# Altium footprint library Nutz.PcbLib: 67 footprints (part 3 of 5)
Each footprint in its own frame and in the unit in brackets; x right, y up, seen from the top. Pads: shape width x height; smd on the part's side, far side on the other; paste and mask are expansions set on the pad; w line width, h text height; cw(c..) or ccw(c..) is an arc to the next point about the centre after c.
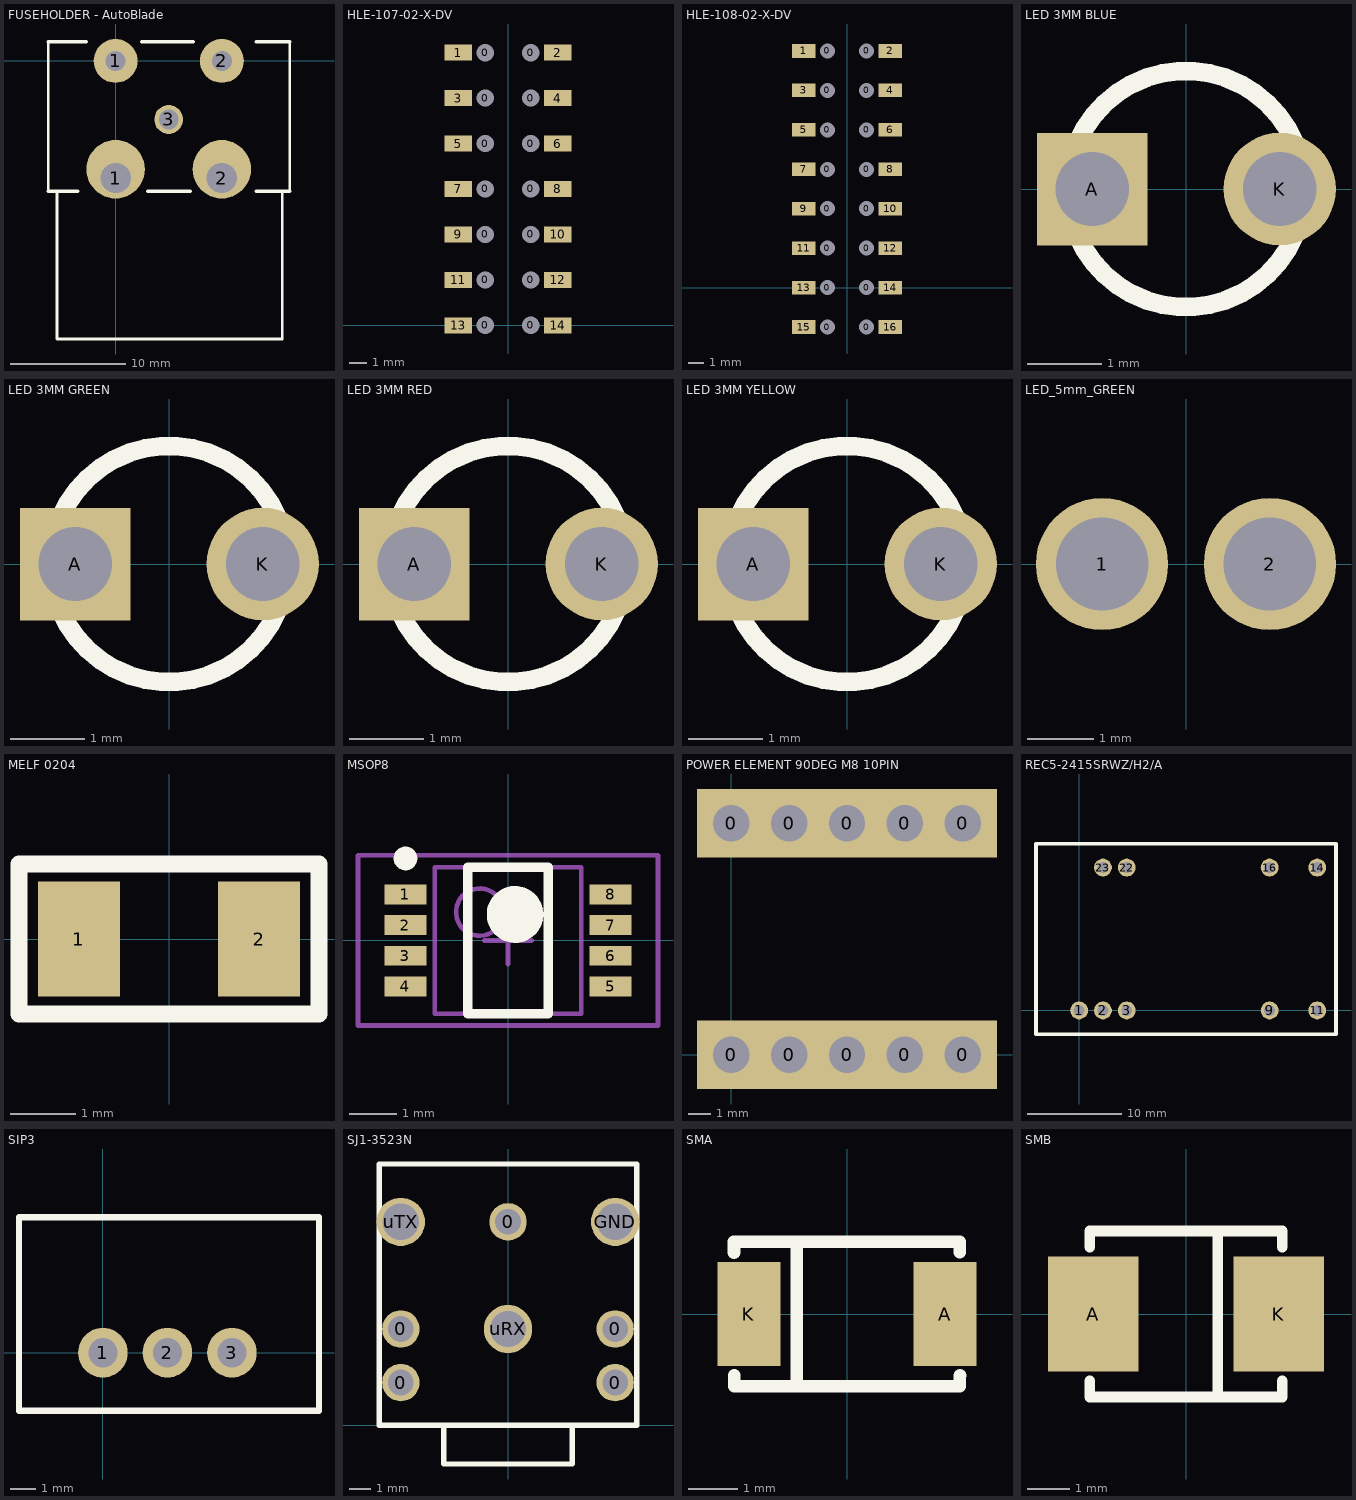
[diagram p2: the footprints below, top view; thin cyan lines are the x and y axes]

## FUSEHOLDER - AutoBlade [mil]
pads (5):
  round 200 hole 104 copper offset 0,30: 1(0,-400) 2(363,-400)
  round 150 hole 68: 1(0,0) 2(363,0)
  round 98.43 hole 67 unplated: 3(181.5,-200)
Top Overlay:
  lines w9: -200,-445 -200,-950 570,-950 570,-445
  lines w10: -230,-445 -230,60 ; 595,-445 595,60
  lines w12: -230,-445 -130,-445 ; -230,65 -100,65 ; 90,65 265,65 ; 110,-445 255,-445 ; 480,-445 595,-445 ; 480,65 595,65

## HLE-107-02-X-DV [mil]
pads (28):
  round 30 hole 38 unplated: 0(-50,0) 0(-50,100) 0(-50,200) 0(-50,300) 0(-50,400) 0(-50,500) 0(-50,600) 0(50,0) 0(50,100) 0(50,200) 0(50,300) 0(50,400) 0(50,500) 0(50,600)
  rect 60x35 smd: 1(-109.5,600) 2(109.5,600) 3(-109.5,500) 4(109.5,500) 5(-109.5,400) 6(109.5,400) 7(-109.5,300) 8(109.5,300) 9(-109.5,200) 10(109.5,200) 11(-109.5,100) 12(109.5,100) 13(-109.5,0) 14(109.5,0)
3D body: height 142.09, standoff -1.91, extent -129.41,-50 130.59,650

## HLE-108-02-X-DV [mil]
pads (32):
  round 30 hole 38 unplated: 0(-50,-100) 0(-50,0) 0(-50,100) 0(-50,200) 0(-50,300) 0(-50,400) 0(-50,500) 0(-50,600) 0(50,-100) 0(50,0) 0(50,100) 0(50,200) 0(50,300) 0(50,400) 0(50,500) 0(50,600)
  rect 60x35 smd: 1(-109.5,600) 2(109.5,600) 3(-109.5,500) 4(109.5,500) 5(-109.5,400) 6(109.5,400) 7(-109.5,300) 8(109.5,300) 9(-109.5,200) 10(109.5,200) 11(-109.5,100) 12(109.5,100) 13(-109.5,0) 14(109.5,0) 15(-109.5,-100) 16(109.5,-100)
3D body: height 142.09, standoff -1.91, extent -129.41,-50 130.59,650

## LED 3MM BLUE [mm] "LED 3MM GREEN"
height 5.1
pads (2):
  rect 1.5x1.524 hole 1: A(-1.27,0)
  round 1.524 hole 1: K(1.27,0)
Top Overlay:
  circle w0.254: c0,0 r1.6
3D body: height 5.51, standoff -2.49, extent -1.65,-1.639 1.65,1.65

## LED 3MM GREEN [mm] "LED 3MM GREEN"
height 5.1
pads (2):
  rect 1.5x1.524 hole 1: A(-1.27,0)
  round 1.524 hole 1: K(1.27,0)
Top Overlay:
  circle w0.254: c0,0 r1.6
3D body: height 5.51, standoff -2.49, extent -1.65,-1.639 1.65,1.65

## LED 3MM RED [mm] "LED 3MM RED"
height 5.1
pads (2):
  rect 1.5x1.524 hole 1: A(-1.27,0)
  round 1.524 hole 1: K(1.27,0)
Top Overlay:
  circle w0.254: c0,0 r1.6
3D body: height 5.51, standoff -2.49, extent -1.65,-1.65 1.65,1.639

## LED 3MM YELLOW [mm] "LED 3MM YELLOW"
height 5.1
pads (2):
  rect 1.5x1.524 hole 1: A(-1.27,0)
  round 1.524 hole 1: K(1.27,0)
Top Overlay:
  circle w0.254: c0,0 r1.6
3D body: height 5.51, standoff -2.49, extent -1.65,-1.65 1.65,1.639

## LED_5mm_GREEN [mm]
height 1.12
pads (2):
  round 2 hole 1.4: 1(-1.27,0) 2(1.27,0)
3D body: height 8.76, standoff -6.04, extent -2.964,-3.048 2.456,2.972

## MELF 0204 [mm]
pads (2):
  rect 1.25x1.75 smd: 1(-1.375,0) 2(1.375,0)
Top Overlay:
  lines w0.254: -2.286,-1.143 2.286,-1.143 2.286,1.143 -2.286,1.143 -2.286,-1.143
3D body: height 1.4, standoff 0, extent -1.714,-0.7 1.686,0.7

## MSOP8 [mm]
height 1.1
pads (8):
  rect 0.889x0.42 smd: 1(-2.171,0.975) 2(-2.171,0.325) 3(-2.171,-0.325) 4(-2.171,-0.975) 5(2.17,-0.975) 6(2.17,-0.325) 7(2.17,0.325) 8(2.17,0.975)
Top Overlay:
  circle w0.25: c-2.171,1.735 r0.125
  circle w0.6: c0.15,0.55 r0.3
  lines w0.2: -0.85,-1.55 -0.85,1.55 0.85,1.55 0.85,-1.55 -0.85,-1.55
Mechanical 13:
  circle w0.1: c-0.6,0.6 r0.5
  lines w0.1: -1.55,-1.55 -1.55,1.55 1.55,1.55 1.55,-1.55 -1.55,-1.55
Mechanical 15:
  lines w0.1: -0.5,0 0.5,0 ; 0,-0.5 0,0.5 ; -3.175,-1.8 -3.175,1.8 3.175,1.8 3.175,-1.8 -3.175,-1.8
3D body: height 1.1, standoff 0.05, extent -1.55,-1.55 1.55,1.55

## POWER ELEMENT 90DEG M8 10PIN [mm]
pads (10):
  rect 3x3 hole 1.6: 0(0,0) 0(0,10.16) 0(2.54,0) 0(2.54,10.16) 0(5.08,0) 0(5.08,10.16) 0(7.62,0) 0(7.62,10.16) 0(10.16,0) 0(10.16,10.16)
3D body: height 20.57, standoff -3.5, extent -6.706,-5.566 13.294,62.125

## REC5-2415SRWZ/H2/A [mm]
pads (9):
  round 1.905 hole 1.15: 1(0,0) 2(2.54,0) 3(5.08,0) 9(20.32,0) 11(25.4,0) 14(25.4,15.24) 16(20.32,15.24) 22(5.08,15.24) 23(2.54,15.24)
Top Overlay:
  lines w0.381: 27.39,17.77 -4.6,17.77 -4.6,-2.53 27.4,-2.53 27.4,17.77
3D body: height 10.2, standoff 0, extent -4.508,-2.413 27.305,17.653

## SIP3 [mm]
pads (3):
  oval 1.95x1.96 hole 1.15: 1(0,0) 2(2.54,0) 3(5.08,0)
Top Overlay:
  lines w0.254: -3.302,-2.286 -3.302,5.334 8.509,5.334 8.509,-2.286 -3.302,-2.286

## SJ1-3523N [mm]
pads (8):
  round 1.75 hole 1.2: 0(-5,2) 0(-5,4.5) 0(0,9.5) 0(5,2) 0(5,4.5)
  round 2.25 hole 1.7: GND(5,9.5) uRX(0,4.5) uTX(-5,9.5)
Top Overlay:
  lines w0.254: -3,0 -3,-1.8 3,-1.8 3,0 ; -6,0 -6,12.2 6,12.2 6,0 -6,0

## SMA [mm]
pads (2):
  rect 1.27x2.1 smd: A(1.985,0) K(-1.985,0)
Top Overlay:
  lines w0.254: -2.286,1.245 -2.286,1.46 ; -2.285,-1.245 -2.285,-1.46 2.285,-1.46 2.285,-1.246 2.286,-1.245 ; -2.285,1.46 2.285,1.46 2.285,1.246 ; -1.016,-1.435 -1.016,1.46
3D body: height 2.4, standoff 0, extent -2.6,-1.3 2.6,1.3

## SMB [mm]
pads (2):
  rect 2.159x2.743 smd: A(-2.21,0) K(2.21,0)
Top Overlay:
  lines w0.254: -2.299,-1.6 -2.299,-1.981 2.299,-1.981 2.299,-1.6 ; -2.299,1.6 -2.299,1.981 2.299,1.981 2.299,1.6 ; 0.762,-1.981 0.762,1.981
3D body: height 2.27, standoff -0.03, extent -2.7,-1.8 2.7,1.8